# EAGLE library part MCP3201 (library JOSHUA)
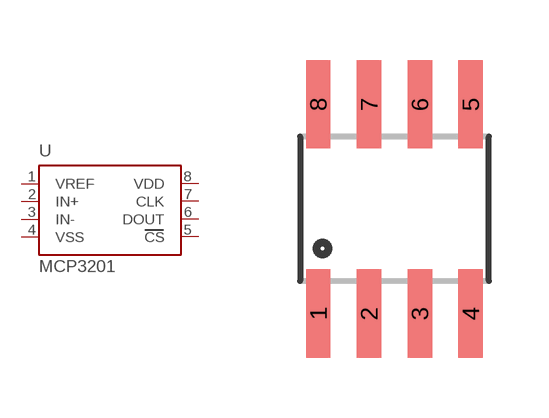
[diagram p5: symbol with the pads of SOIC8; footprint SOIC8]

Designator prefix U

## MCP3201  [SOIC8]
1  VREF
2  IN+
3  IN-
4  VSS
5  CS
6  DOUT
7  CLK
8  VDD

## Footprint SOIC8 (pad centres in mm)
smd 0.61 x 2.21: 1 -1.905,-2.616; 2 -0.635,-2.616; 3 0.635,-2.616; 4 1.905,-2.616; 5 1.905,2.616; 6 0.635,2.616; 7 -0.635,2.616; 8 -1.905,2.616